# EAGLE library part 74*541 (library TABOR K1)
Octal BUFFER and LINE DRIVER, 3-state
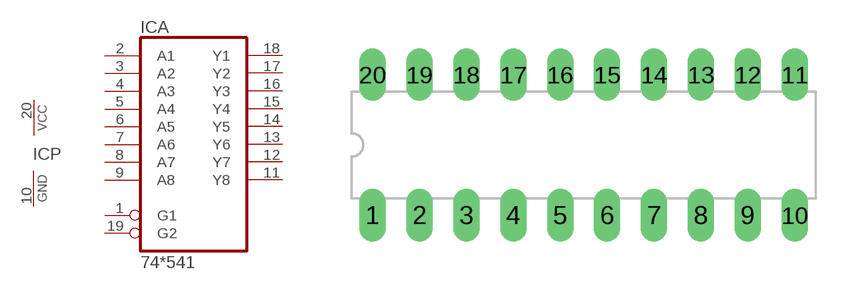
[diagram p20: symbol with the pads of DIL20; footprint DIL20]

Designator prefix IC; gates A=74541 P=PWR-GND-VCC

## 74ALS541N, 74HC541N, 74HCT541N, 74LS541N  [DIL20]
1  A:G1  in
2  A:A1  in
3  A:A2  in
4  A:A3  in
5  A:A4  in
6  A:A5  in
7  A:A6  in
8  A:A7  in
9  A:A8  in
10  P:GND  pwr
11  A:Y8  hiz
12  A:Y7  hiz
13  A:Y6  hiz
14  A:Y5  hiz
15  A:Y4  hiz
16  A:Y3  hiz
17  A:Y2  hiz
18  A:Y1  hiz
19  A:G2  in
20  P:VCC  pwr

## Footprint DIL20 (pad centres in mm)
Púzdro DIL20 : diera s pokovenim = 0,6 mm, vrtanie = 0,8mm
drill 0.813 pad 1.422 long: 1 -11.43,-3.81; 2 -8.89,-3.81; 3 -6.35,-3.81; 4 -3.81,-3.81; 5 -1.27,-3.81; 6 1.27,-3.81; 7 3.81,-3.81; 8 6.35,-3.81; 9 8.89,-3.81; 10 11.43,-3.81; 11 11.43,3.81; 12 8.89,3.81; 13 6.35,3.81; 14 3.81,3.81; 15 1.27,3.81; 16 -1.27,3.81; 17 -3.81,3.81; 18 -6.35,3.81; 19 -8.89,3.81; 20 -11.43,3.81